# Altium footprint library CONN_HDR_1.27MM_BOX_IDC.PcbLib: 8 footprints
Each footprint in its own frame and in the unit in brackets; x right, y up, seen from the top. Pads: shape width x height; smd on the part's side, far side on the other; paste and mask are expansions set on the pad; w line width, h text height; cw(c..) or ccw(c..) is an arc to the next point about the centre after c.
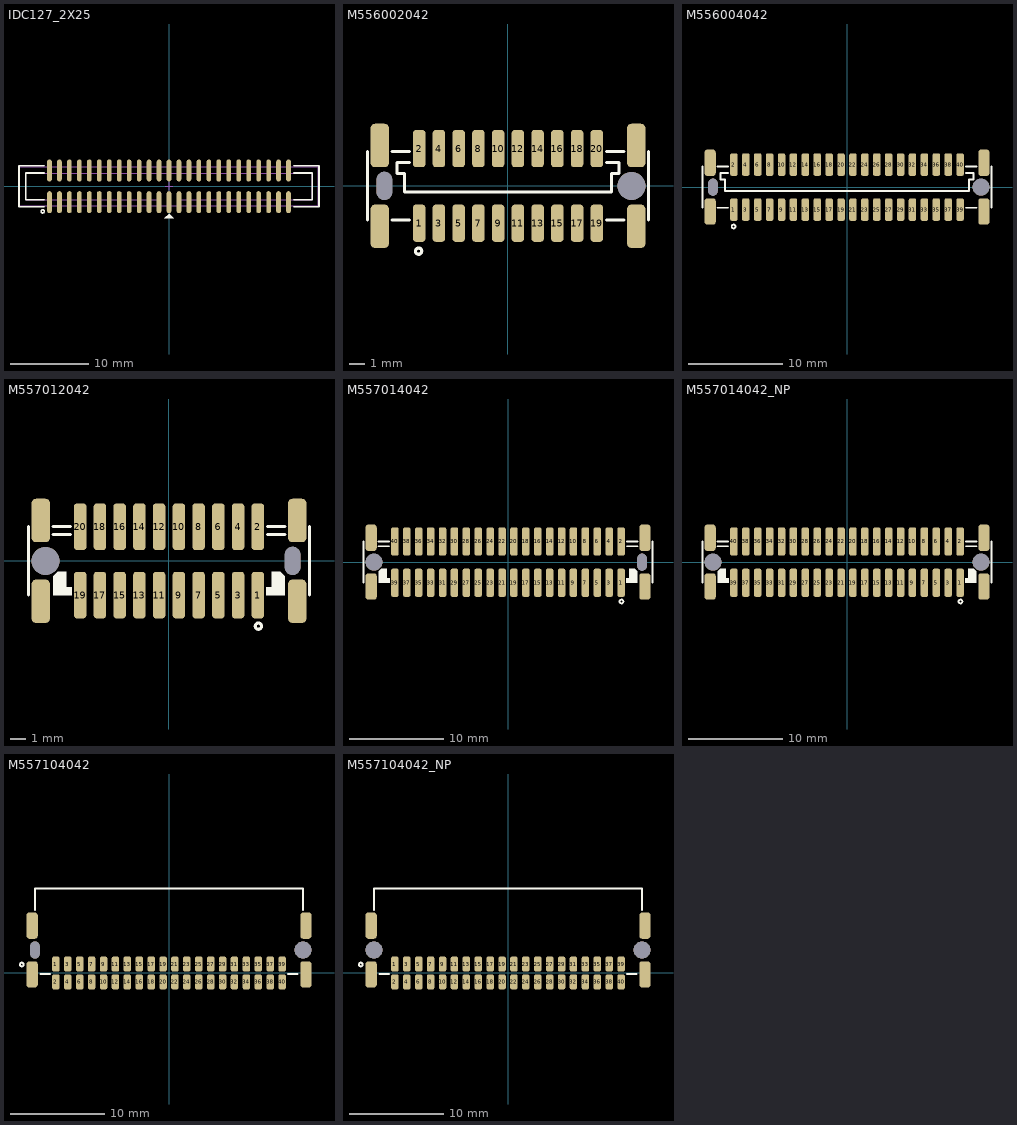
[diagram p0: the footprints below, top view; thin cyan lines are the x and y axes]

## IDC127_2X25 [mm] "Box Header SMT type, 50p, 62705020621"
height 5.3
pads (50):
  oval 0.6x2.8 smd mask+0.075: 1(-15.24,-2.02) 2(-15.24,2.02) 3(-13.97,-2.02) 4(-13.97,2.02) 5(-12.7,-2.02) 6(-12.7,2.02) 7(-11.43,-2.02) 8(-11.43,2.02) 9(-10.16,-2.02) 10(-10.16,2.02) 11(-8.89,-2.02) 12(-8.89,2.02) 13(-7.62,-2.02) 14(-7.62,2.02) 15(-6.35,-2.02) 16(-6.35,2.02) 17(-5.08,-2.02) 18(-5.08,2.02) 19(-3.81,-2.02) 20(-3.81,2.02) 21(-2.54,-2.02) 22(-2.54,2.02) 23(-1.27,-2.02) 24(-1.27,2.02) 25(0,-2.02) 26(0,2.02) 27(1.27,-2.02) 28(1.27,2.02) 29(2.54,-2.02) 30(2.54,2.02) 31(3.81,-2.02) 32(3.81,2.02) 33(5.08,-2.02) 34(5.08,2.02) 35(6.35,-2.02) 36(6.35,2.02) 37(7.62,-2.02) 38(7.62,2.02) 39(8.89,-2.02) 40(8.89,2.02) 41(10.16,-2.02) 42(10.16,2.02) 43(11.43,-2.02) 44(11.43,2.02) 45(12.7,-2.02) 46(12.7,2.02) 47(13.97,-2.02) 48(13.97,2.02) 49(15.24,-2.02) 50(15.24,2.02)
Top Overlay:
  circle w0.2: c-16.1,-3.2 r0.2
  region: 0,-3.5 -0.6,-4.1 0.6,-4.1
  lines w0.2: -15.9,-2.6 -19.125,-2.6 -19.125,2.6 -15.9,2.6 ; -15.9,-1.7 -18.25,-1.7 -18.25,1.7 -15.9,1.7 ; 15.9,-2.6 19.125,-2.6 19.125,2.6 15.9,2.6 ; 15.9,-1.7 18.25,-1.7 18.25,1.7 15.9,1.7
Top 3D Body:
  lines w0.1: -1.2,-2.5 -1.2,-1.7 -18.25,-1.7 -18.25,1.7 18.25,1.7 18.25,-1.7 1.2,-1.7 1.2,-2.5 ; -19.05,-2.5 19.05,-2.5 19.05,2.5 -19.05,2.5 -19.05,-2.5
Mechanical 13:
  lines w0.05: -0.5,0 0.5,0 ; 0,-0.5 0,0.5
3D body "62705020621.stp": height 5.2, standoff 0, extent -19.05,-2.8 19.05,2.8

## M556002042 [mm] "Conn. HDR BOX 1.27mm SMT, M55-6002042"
pads (26):
  rrect50% 0.8x2.4 smd: 1(-5.715,-2.4) 2(-5.715,2.4) 3(-4.445,-2.4) 4(-4.445,2.4) 5(-3.175,-2.4) 6(-3.175,2.4) 7(-1.905,-2.4) 8(-1.905,2.4) 9(-0.635,-2.4) 10(-0.635,2.4) 11(0.635,-2.4) 12(0.635,2.4) 13(1.905,-2.4) 14(1.905,2.4) 15(3.175,-2.4) 16(3.175,2.4) 17(4.445,-2.4) 18(4.445,2.4) 19(5.715,-2.4) 20(5.715,2.4)
  rrect50% 1.2x2.8 smd: ""(-8.25,-2.6) ""(-8.25,2.6) ""(8.25,-2.6) ""(8.25,2.6)
  oval 1x1.8 hole 1 slot 1.8 at 90 deg unplated: ""(-7.95,0)
  round 1.8 hole 1.8 unplated: ""(7.95,0)
Top Overlay:
  circle w0.2: c-5.75,-4.2 r0.2
  lines w0.2: -9.05,-2.2 -9.05,2.2 ; -7.45,-2.2 -6.35,-2.2 ; -7.45,2.2 -6.35,2.2 ; -6.35,1.5 -7.15,1.5 -7.15,0.8 -6.65,0.8 -6.65,-0.4 6.65,-0.4 6.65,0.8 7.15,0.8 7.15,1.5 6.35,1.5 ; 6.35,-2.2 7.45,-2.2 ; 6.35,2.2 7.45,2.2 ; 9.05,-2.2 9.05,2.2
3D body "m55-6002042_asm.stp": height 6.25, standoff -0.75, extent -8.89,-3.6 8.89,3.6

## M556004042 [mm] "Conn. HDR BOX 1.27mm SMT, M55-6004042"
pads (46):
  rrect50% 0.8x2.4 smd: 1(-12.065,-2.4) 2(-12.065,2.4) 3(-10.795,-2.4) 4(-10.795,2.4) 5(-9.525,-2.4) 6(-9.525,2.4) 7(-8.255,-2.4) 8(-8.255,2.4) 9(-6.985,-2.4) 10(-6.985,2.4) 11(-5.715,-2.4) 12(-5.715,2.4) 13(-4.445,-2.4) 14(-4.445,2.4) 15(-3.175,-2.4) 16(-3.175,2.4) 17(-1.905,-2.4) 18(-1.905,2.4) 19(-0.635,-2.4) 20(-0.635,2.4) 21(0.635,-2.4) 22(0.635,2.4) 23(1.905,-2.4) 24(1.905,2.4) 25(3.175,-2.4) 26(3.175,2.4) 27(4.445,-2.4) 28(4.445,2.4) 29(5.715,-2.4) 30(5.715,2.4) 31(6.985,-2.4) 32(6.985,2.4) 33(8.255,-2.4) 34(8.255,2.4) 35(9.525,-2.4) 36(9.525,2.4) 37(10.795,-2.4) 38(10.795,2.4) 39(12.065,-2.4) 40(12.065,2.4)
  rrect50% 1.2x2.8 smd: ""(-14.6,-2.6) ""(-14.6,2.6) ""(14.6,-2.6) ""(14.6,2.6)
  oval 1x1.8 hole 1 slot 1.8 at 90 deg unplated: ""(-14.3,0)
  round 1.8 hole 1.8 unplated: ""(14.3,0)
Top Overlay:
  circle w0.2: c-12.1,-4.2 r0.2
  lines w0.2: -15.4,-2.2 -15.4,2.2 ; -13.8,-2.2 -12.7,-2.2 ; -13.8,2.2 -12.7,2.2 ; -12.7,1.5 -13.5,1.5 -13.5,0.8 -13,0.8 -13,-0.4 13,-0.4 13,0.8 13.5,0.8 13.5,1.5 12.7,1.5 ; 12.7,-2.2 13.8,-2.2 ; 12.7,2.2 13.8,2.2 ; 15.4,-2.2 15.4,2.2
3D body "m55-6004042_asm.stp": height 6.25, standoff -0.75, extent -15.24,-3.6 15.24,3.6

## M557012042 [mm] "Conn. HDR BOX 1.27mm SMT, M55-7012042"
pads (26):
  rrect50% 0.8x3 smd: 1(5.715,-2.2) 2(5.715,2.2) 3(4.445,-2.2) 4(4.445,2.2) 5(3.175,-2.2) 6(3.175,2.2) 7(1.905,-2.2) 8(1.905,2.2) 9(0.635,-2.2) 10(0.635,2.2) 11(-0.635,-2.2) 12(-0.635,2.2) 13(-1.905,-2.2) 14(-1.905,2.2) 15(-3.175,-2.2) 16(-3.175,2.2) 17(-4.445,-2.2) 18(-4.445,2.2) 19(-5.715,-2.2) 20(-5.715,2.2)
  rrect50% 1.2x2.8 smd: ""(-8.25,-2.6) ""(-8.25,2.6) ""(8.25,-2.6) ""(8.25,2.6)
  round 1.8 hole 1.8 unplated: ""(-7.95,0)
  oval 1x1.8 hole 1 slot 1.8 at 90 deg unplated: ""(7.95,0)
Top Overlay:
  circle w0.2: c5.75,-4.2 r0.2
  region: -7.45,-2.2 -6.25,-2.2 -6.25,-1.7 -6.6,-1.7 -6.6,-0.7 -7.15,-0.7 -7.45,-1
  region: 7.45,-2.2 6.25,-2.2 6.25,-1.7 6.6,-1.7 6.6,-0.7 7.15,-0.7 7.45,-1
  lines w0.2: -9.05,-2.2 -9.05,2.2 ; -7.45,1.7 -6.35,1.7 ; -7.45,2.2 -6.35,2.2 ; 6.35,1.7 7.45,1.7 ; 6.35,2.2 7.45,2.2 ; 9.05,-2.2 9.05,2.2
3D body "m55-7002042_asm.stp": height 6.75, standoff -0.75, extent -8.89,-3.6 8.89,3.6

## M557014042 [mm] "Conn. HDR BOX 1.27mm SMT, M55-7014042"
pads (46):
  rrect50% 0.8x3 smd: 1(12.065,-2.2) 2(12.065,2.2) 3(10.795,-2.2) 4(10.795,2.2) 5(9.525,-2.2) 6(9.525,2.2) 7(8.255,-2.2) 8(8.255,2.2) 9(6.985,-2.2) 10(6.985,2.2) 11(5.715,-2.2) 12(5.715,2.2) 13(4.445,-2.2) 14(4.445,2.2) 15(3.175,-2.2) 16(3.175,2.2) 17(1.905,-2.2) 18(1.905,2.2) 19(0.635,-2.2) 20(0.635,2.2) 21(-0.635,-2.2) 22(-0.635,2.2) 23(-1.905,-2.2) 24(-1.905,2.2) 25(-3.175,-2.2) 26(-3.175,2.2) 27(-4.445,-2.2) 28(-4.445,2.2) 29(-5.715,-2.2) 30(-5.715,2.2) 31(-6.985,-2.2) 32(-6.985,2.2) 33(-8.255,-2.2) 34(-8.255,2.2) 35(-9.525,-2.2) 36(-9.525,2.2) 37(-10.795,-2.2) 38(-10.795,2.2) 39(-12.065,-2.2) 40(-12.065,2.2)
  rrect50% 1.2x2.8 smd: ""(-14.6,-2.6) ""(-14.6,2.6) ""(14.6,-2.6) ""(14.6,2.6)
  round 1.8 hole 1.8 unplated: ""(-14.3,0)
  oval 1x1.8 hole 1 slot 1.8 at 90 deg unplated: ""(14.3,0)
Top Overlay:
  circle w0.2: c12.1,-4.2 r0.2
  region: -13.8,-2.2 -12.6,-2.2 -12.6,-1.7 -12.95,-1.7 -12.95,-0.7 -13.5,-0.7 -13.8,-1
  region: 13.8,-2.2 12.6,-2.2 12.6,-1.7 12.95,-1.7 12.95,-0.7 13.5,-0.7 13.8,-1
  lines w0.2: -15.4,-2.2 -15.4,2.2 ; -13.8,1.7 -12.7,1.7 ; -13.8,2.2 -12.7,2.2 ; 12.7,1.7 13.8,1.7 ; 12.7,2.2 13.8,2.2 ; 15.4,-2.2 15.4,2.2
3D body "m55-7014042_asm.stp": height 8.25, standoff -0.75, extent -15.24,-3.6 15.24,3.6

## M557014042_NP [mm] "Conn. HDR BOX 1.27mm SMT, M55-7014042 no polarized"
pads (46):
  rrect50% 0.8x3 smd mask+0.075: 1(12.065,-2.2) 2(12.065,2.2) 3(10.795,-2.2) 4(10.795,2.2) 5(9.525,-2.2) 6(9.525,2.2) 7(8.255,-2.2) 8(8.255,2.2) 9(6.985,-2.2) 10(6.985,2.2) 11(5.715,-2.2) 12(5.715,2.2) 13(4.445,-2.2) 14(4.445,2.2) 15(3.175,-2.2) 16(3.175,2.2) 17(1.905,-2.2) 18(1.905,2.2) 19(0.635,-2.2) 20(0.635,2.2) 21(-0.635,-2.2) 22(-0.635,2.2) 23(-1.905,-2.2) 24(-1.905,2.2) 25(-3.175,-2.2) 26(-3.175,2.2) 27(-4.445,-2.2) 28(-4.445,2.2) 29(-5.715,-2.2) 30(-5.715,2.2) 31(-6.985,-2.2) 32(-6.985,2.2) 33(-8.255,-2.2) 34(-8.255,2.2) 35(-9.525,-2.2) 36(-9.525,2.2) 37(-10.795,-2.2) 38(-10.795,2.2) 39(-12.065,-2.2) 40(-12.065,2.2)
  rrect50% 1.2x2.8 smd: ""(-14.6,-2.6) ""(-14.6,2.6) ""(14.6,-2.6) ""(14.6,2.6)
  round 1.8 hole 1.8 unplated: ""(-14.3,0) ""(14.3,0)
Top Overlay:
  circle w0.2: c12.1,-4.2 r0.2
  region: -13.8,-2.2 -12.6,-2.2 -12.6,-1.7 -12.95,-1.7 -12.95,-0.7 -13.5,-0.7 -13.8,-1
  region: 13.8,-2.2 12.6,-2.2 12.6,-1.7 12.95,-1.7 12.95,-0.7 13.5,-0.7 13.8,-1
  lines w0.2: -15.4,-2.2 -15.4,2.2 ; -13.8,1.7 -12.7,1.7 ; -13.8,2.2 -12.7,2.2 ; 12.7,1.7 13.8,1.7 ; 12.7,2.2 13.8,2.2 ; 15.4,-2.2 15.4,2.2
3D body "m55-7014042_asm.stp": height 8.25, standoff -0.75, extent -15.24,-3.6 15.24,3.6

## M557104042 [mm] "Conn. HDR BOX 1.27mm SMT, M55-7104042"
pads (46):
  rrect50% 0.8x1.6 smd: 1(-12.065,0.95) 2(-12.065,-0.95) 3(-10.795,0.95) 4(-10.795,-0.95) 5(-9.525,0.95) 6(-9.525,-0.95) 7(-8.255,0.95) 8(-8.255,-0.95) 9(-6.985,0.95) 10(-6.985,-0.95) 11(-5.715,0.95) 12(-5.715,-0.95) 13(-4.445,0.95) 14(-4.445,-0.95) 15(-3.175,0.95) 16(-3.175,-0.95) 17(-1.905,0.95) 18(-1.905,-0.95) 19(-0.635,0.95) 20(-0.635,-0.95) 21(0.635,0.95) 22(0.635,-0.95) 23(1.905,0.95) 24(1.905,-0.95) 25(3.175,0.95) 26(3.175,-0.95) 27(4.445,0.95) 28(4.445,-0.95) 29(5.715,0.95) 30(5.715,-0.95) 31(6.985,0.95) 32(6.985,-0.95) 33(8.255,0.95) 34(8.255,-0.95) 35(9.525,0.95) 36(9.525,-0.95) 37(10.795,0.95) 38(10.795,-0.95) 39(12.065,0.95) 40(12.065,-0.95)
  rrect50% 1.2x2.8 smd: ""(-14.6,-0.15) ""(-14.6,5.05) ""(14.6,-0.15) ""(14.6,5.05)
  oval 1x1.8 hole 1 slot 1.8 at 90 deg unplated: ""(-14.3,2.45)
  round 1.8 hole 1.8 unplated: ""(14.3,2.45)
Top Overlay:
  circle w0.2: c-15.7,0.9 r0.2
  lines w0.2: -14.3,6.7 -14.3,9 14.3,9 14.3,6.7 ; -13.7,-0.1 -12.7,-0.1 ; 12.7,-0.1 13.7,-0.1
3D body "m55-7104042_asm.stp": height 4.2, standoff -0.75, extent -15.24,-1.15 15.24,8.85

## M557104042_NP [mm] "Conn. HDR BOX 1.27mm SMT, M55-7104042 no polarized"
pads (46):
  rrect50% 0.8x1.6 smd mask+0.075: 1(-12.065,0.95) 2(-12.065,-0.95) 3(-10.795,0.95) 4(-10.795,-0.95) 5(-9.525,0.95) 6(-9.525,-0.95) 7(-8.255,0.95) 8(-8.255,-0.95) 9(-6.985,0.95) 10(-6.985,-0.95) 11(-5.715,0.95) 12(-5.715,-0.95) 13(-4.445,0.95) 14(-4.445,-0.95) 15(-3.175,0.95) 16(-3.175,-0.95) 17(-1.905,0.95) 18(-1.905,-0.95) 19(-0.635,0.95) 20(-0.635,-0.95) 21(0.635,0.95) 22(0.635,-0.95) 23(1.905,0.95) 24(1.905,-0.95) 25(3.175,0.95) 26(3.175,-0.95) 27(4.445,0.95) 28(4.445,-0.95) 29(5.715,0.95) 30(5.715,-0.95) 31(6.985,0.95) 32(6.985,-0.95) 33(8.255,0.95) 34(8.255,-0.95) 35(9.525,0.95) 36(9.525,-0.95) 37(10.795,0.95) 38(10.795,-0.95) 39(12.065,0.95) 40(12.065,-0.95)
  rrect50% 1.2x2.8 smd: ""(-14.6,-0.15) ""(-14.6,5.05) ""(14.6,-0.15) ""(14.6,5.05)
  round 1.8 hole 1.8 unplated: ""(-14.3,2.45) ""(14.3,2.45)
Top Overlay:
  circle w0.2: c-15.7,0.9 r0.2
  lines w0.2: -14.3,6.7 -14.3,9 14.3,9 14.3,6.7 ; -13.7,-0.1 -12.7,-0.1 ; 12.7,-0.1 13.7,-0.1
3D body "m55-7104042_asm.stp": height 4.2, standoff -0.75, extent -15.24,-1.15 15.24,8.85